# Altium schematic symbol library ESD5Z3.3T1G.SchLib: 1 symbol
Pins are listed as number, name and electrical type; pins without a type are passive.

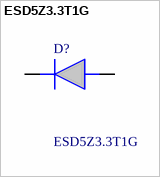
[diagram p0: symbol ESD5Z3.3T1G]

## ESD5Z3.3T1G
designator D?
Low Clamping Voltage; Small Body Outline Dimensions: 0.047 x 0.032 (1.20 mm x 0.80 mm); Low Leakage; Response Time is Typically < 1 ns; IEC6100042 Level 4 ESD Protection and IEC6100044 Level 4 EFT Protection; SZ Prefix for Automotive and Other Applications Requiring Unique Site and Control Change Requirements; AECQ101 Qualified and PPAP Capable; Peak Power up to 240 Watts @ 8 x 20 s Pulse; Low Body Height: 0.028 (0.7 mm); ESD Rating of Class 3 (> 16 kV) per Human Body Model; These Devices are PbFre; Manufacturer_Name: onsemi; Geometry.Height: 0.7mm; Manufacturer_Part_Number: ESD5Z3.3T1G; Mouser Part Number: 863-ESD5Z3.3T1G; Mouser Price/Stock: https://www.mouser.co.uk/ProductDetail/onsemi/ESD5Z3.3T1G?qs=OSf9jACorvaH3Y8oRWEcuQ%3D%3D; Arrow Part Number: ESD5Z3.3T1G; Arrow Price/Stock: https://www.arrow.com/en/products/esd5z3.3t1g/on-semiconductor?utm_currency=USD&region=nac; Datasheet Link: https://www.onsemi.com/pub/Collateral/ESD5Z2.5T1-D.PDF
footprint SODFL1608X70N
pins: 1 K, 2 A